# EAGLE library part INA230AIRGTT (library INA230AIRGTT)
28V, Bi-Directional, Low-/High-Side, I2C Out Current/Power Monitor w/Alert Source: Datasheet <http://www.ti.com/lit/gpn/INA230>
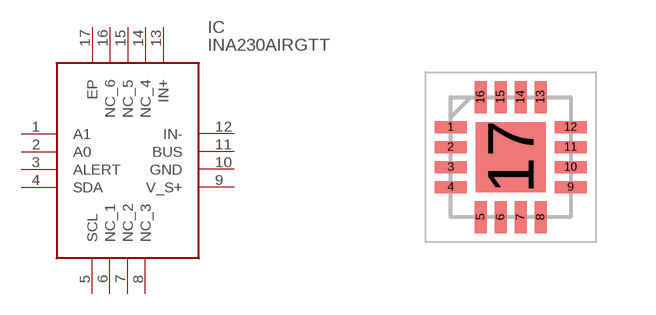
[diagram p0: symbol with the pads of QFN50P300X300X100-17N; footprint QFN50P300X300X100-17N]

Designator prefix IC

## INA230AIRGTT (Arrow_Part_Number: INA230AIRGTT; Arrow_Price-Stock: https://www.arrow.com/en/products/ina230airgtt/texas-instruments?utm_currency=USD&region=nac; Description: 28V, Bi-Directional, Low-/High-Side, I2C Out Current/Power Monitor w/Alert; Height: 1mm; Manufacturer_Name: Texas Instruments; Manufacturer_Part_Number: INA230AIRGTT; Mouser_Part_Number: 595-INA230AIRGTT; Mouser_Price-Stock: https://www.mouser.co.uk/ProductDetail/Texas-Instruments/INA230AIRGTT?qs=CKajpF%2FgJL%2Fl7EAtRODykg%3D%3D)  [QFN50P300X300X100-17N]
1  A1
2  A0
3  ALERT
4  SDA
5  SCL
6  NC_1
7  NC_2
8  NC_3
9  V_S+
10  GND
11  BUS
12  IN-
13  IN+
14  NC_4
15  NC_5
16  NC_6
17  EP

## Footprint QFN50P300X300X100-17N (pad centres in mm)
RGT0016C height=1
smd 0.8 x 0.3: 1 -1.5,0.75; 2 -1.5,0.25; 3 -1.5,-0.25; 4 -1.5,-0.75; 9 1.5,-0.75; 10 1.5,-0.25; 11 1.5,0.25; 12 1.5,0.75
smd 0.3 x 0.8: 5 -0.75,-1.5; 6 -0.25,-1.5; 7 0.25,-1.5; 8 0.75,-1.5; 13 0.75,1.5; 14 0.25,1.5; 15 -0.25,1.5; 16 -0.75,1.5
smd 1.75 x 1.75: 17 0,0